# Altium integrated library Net173.IntLib: 20 symbols
Pins are listed as number, name and electrical type; pins without a type are passive.

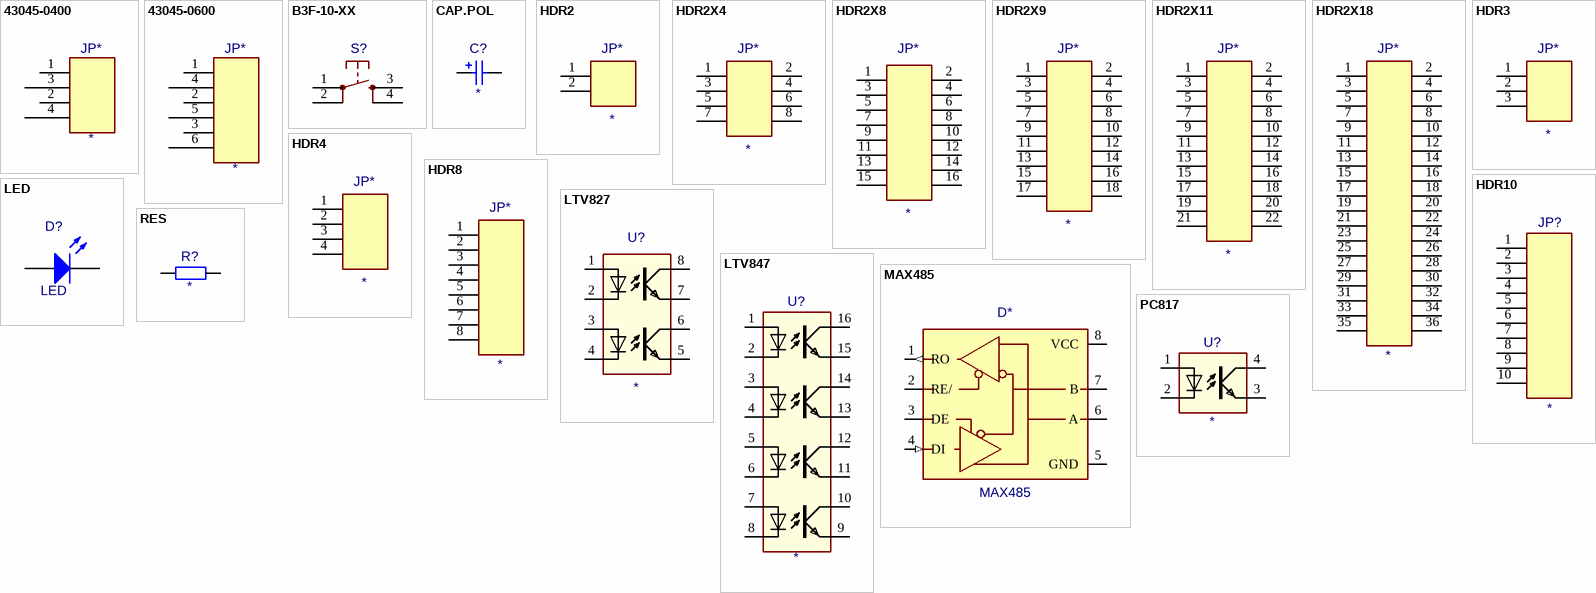
[diagram p0: symbols 43045-0400 to RES]

## 43045-0400
designator JP*
footprint 43045-0400
pins: 1, 2, 3, 4

## 43045-0600
designator JP*
footprint 43045-0600
pins: 1, 2, 3, 4, 5, 6

## B3F-10-XX
designator S?, comment OMRON SWITCH  (value not drawn)
MPN: B3F-1000; OC_FARNELL: 176432; OC_NEWARK: 36M3542
footprint B3F-10XX
pins: 1 S, 2 S1, 3 P, 4 P1

## CAP.POL
designator C?
Polarized Capacitor (Radial); Published: 8-Jun-2000; LatestRevisionDate: 17-Jul-2002; LatestRevisionNote: Re-released for DXP Platform.; PackageReference: RB7.6-15; Publisher: Altium Limited; PackageDescription: Polarized Capacitor (Radial); 2 Leads; CAPACITANCE: *; VOLTAGE: *
footprint E3,5-8
pins: + 1, - 2
1 alternate drawing of the same symbol

## HDR2
designator JP*
footprint HDR1X2 (Connector; Header; 2 Position)
pins: 1, 2

## HDR2X4
designator JP*
footprint HDR2X4 (Connector; Header; 4x2 Position)
pins: 1, 2, 3, 4, 5, 6, 7, 8

## HDR2X8
designator JP*
footprint HDR2X8 (Connector; Header; 8x2 Position)
pins: 1, 2, 3, 4, 5, 6, 7, 8, 9, 10, 11, 12, 13, 14, 15, 16

## HDR2X9
designator JP*
footprint HDR2X9 (Connector; Header; 9x2 Position)
pins: 1, 2, 3, 4, 5, 6, 7, 8, 9, 10, 11, 12, 13, 14, 15, 16, 17, 18

## HDR2X11
designator JP*
footprint HDR2X11 (Connector; Header; 11x2 Position)
pins: 1, 2, 3, 4, 5, 6, 7, 8, 9, 10, 11, 12, 13, 14, 15, 16, 17, 18, 19, 20, 21, 22

## HDR2X18
designator JP*
footprint HDR2X18
footprint HDR2X18-BOTTOM
pins: 1, 2, 3, 4, 5, 6, 7, 8, 9, 10, 11, 12, 13, 14, 15, 16, 17, 18, 19, 20, 21, 22, 23, 24, 25, 26, 27, 28, 29, 30, 31, 32, 33, 34, 35, 36

## HDR3
designator JP*
footprint HDR1X3H (Connector; Header; 3 Position; Right Angle)
pins: 1, 2, 3

## HDR4
designator JP*
footprint HDR1X4H (Connector; Header; 4 Position; Right Angle)
footprint HDR1X4 (Connector; Header; 4 Position)
pins: 1, 2, 3, 4

## HDR8
designator JP*
footprint HDR8
footprint HDR8-BOTTOM
pins: 1, 2, 3, 4, 5, 6, 7, 8

## HDR10
designator JP?
footprint HDR10
footprint HDR10-BOTTOM
pins: 1, 2, 3, 4, 5, 6, 7, 8, 9, 10

## LED
designator D?
Published: 8-Jun-2000; LatestRevisionDate: 08-Jul-2005; LatestRevisionNote: Mech Layer 1 removed.; PackageReference: LED-1; Publisher: Altium Limited; PackageDescription: LED; 2 Leads
footprint 1206-SMD-LED
pins: 1 A, 2 K

## LTV827
designator U?
footprint DIP8
pins: 1, 2, 3, 4, 5, 6, 7, 8

## LTV847
designator U?
footprint DIP16
pins: 1, 2, 3, 4, 5, 6, 7, 8, 9, 10, 11, 12, 13, 14, 15, 16

## MAX485
designator D*
footprint DIP8
footprint SOIC-N-8
pins: 1 RO (out), 2 RE/, 3 DE, 4 DI (in), 5 GND (power), 6 A, 7 B, 8 VCC (power)

## PC817
designator U?
footprint DIP4-SMD
footprint DIP4
pins: 1, 2, 3, 4

## RES
designator R?
VALUE: *
footprint 1206-SMD-RES
pins: 1, 2